# Altium schematic symbol library Connectors.SchLib: 95 symbols (part 1 of 2)
Pins are listed as number, name and electrical type; pins without a type are passive.

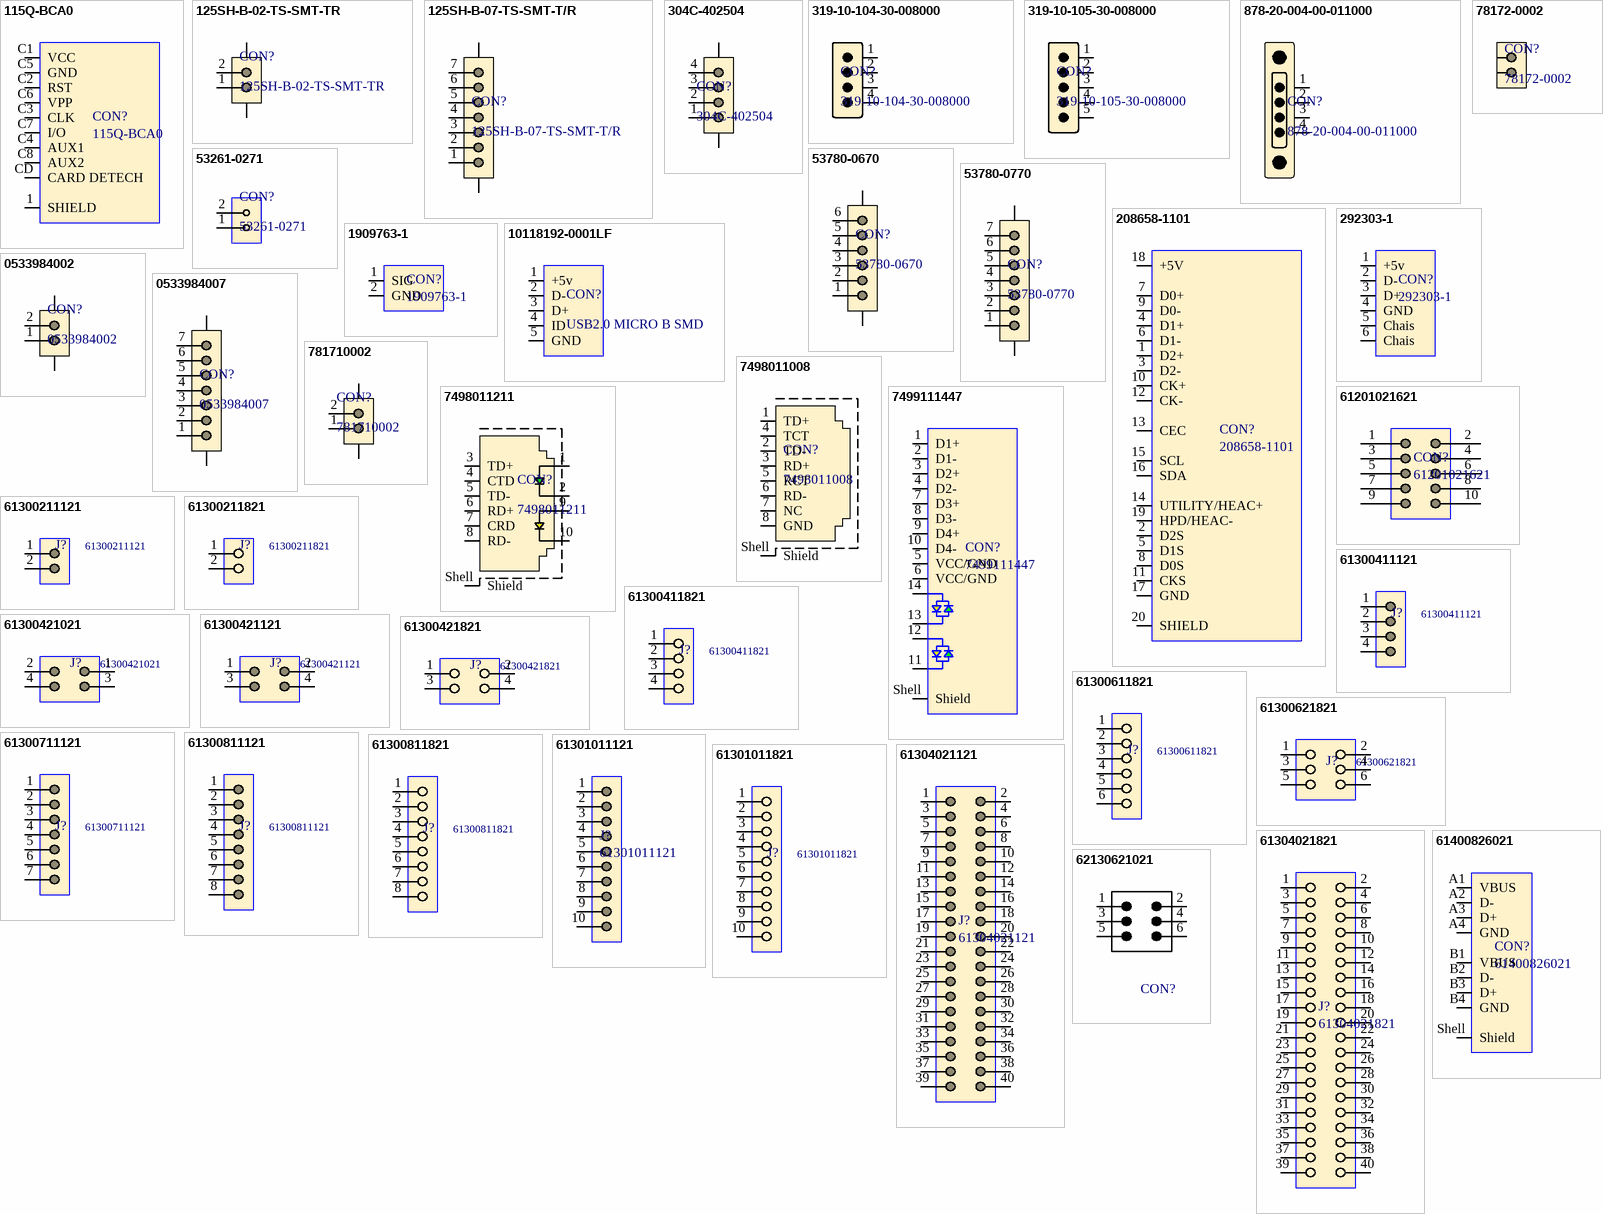
[diagram p0: symbols 115Q-BCA0 to 62130621021]

## 115Q-BCA0
designator CON?
Mini SIM Card, 8 Contacts,; Manufacturer: Attend; Contact Metarial: 5u" GOLD PLATED, 50u" NICKEL UNDER PLATED; Number of Contacts: 8; Purpose Of Usage: BASIC; Supplier 1: Özdisan; Supplier Part Number 1: 115Q-BCA0; Manufacturer Part Number: 115Q-BCA0; RoHS: Yes; Mount: SMD; Contact Plating: Gold; Min Operating Temperature: -40°C; Max Operating Temperature: 85°C; Sub-Category: SIM CARD; Category: CONNECTORS; Stock ID: ??
footprint 115Q-BCA0
pins: 1 SHIELD, C1 VCC, C2 RST, C3 CLK, C4 AUX1, C5 GND, C6 VPP, C7 I/O, C8 AUX2, CD CARD DETECH

## 125SH-B-02-TS-SMT-TR
designator CON?
Connector, header, SMT 2 position, 1.25MM pitch, wire to board header | Adam Tech 125SH-B-02-TS-SMT-T/R; Gender: Receptacle; Number of Contacts: 2; Purpose Of Usage: BASIC; Manufacturer: Adam Tech; Manufacturer Part Number: 125SH-B-02-TS-SMT-TR; Category: CONNECTORS; Local Supplier: FUTURE; Max Operating Temperature: 85°C; Min Operating Temperature: -40°C; Mount: SMD; Orientation: Straight; Pitch: 1.25mm; Price 10K: 0.09; RoHS: Yes; Stock ID: ??; Sub-Category: BOARD TO WIRE; Supplier 1: Digi-Key; Supplier Part Number 1: 2057-125SH-B-02-TS-SMT-T/RCT-ND
footprint 0533984002
pins: 1, 2, 8, 9

## 125SH-B-07-TS-SMT-T/R
designator CON?
Connector, header, SMT 7 position, 1.25MM pitch, wire to board header; Manufacturer: Adam Equipment; Gender: Receptacle; Number of Contacts: 7; Purpose Of Usage: BASIC; Category: CONNECTORS; Local Supplier: FUTURE; Manufacturer Part Number: 125SH-B-07-TS-SMT-T/R; Max Operating Temperature: 85°C; Min Operating Temperature: -40°C; Mount: SMD; Orientation: Straight; Pitch: 1.25mm; Price 10K: 0.156; RoHS: Yes; Stock ID: ??; Sub-Category: BOARD TO WIRE; Supplier 1: Digi-Key; Supplier Part Number 1: 2057-125SH-B-07-TS-SMT-T/RTR-ND
footprint 0533984007
pins: 1, 2, 3, 4, 5, 6, 7, 8, 9

## 304C-402504
designator CON?
Battery Connector, R/A, SMT, Pitch 2.5, H=4.0, 04 Pin, 5u"; Manufacturer: ATTEND; Manufacturer Part Number: 0781710002; Purpose Of Usage: BASIC; RoHS: Yes; Category: CONNECTORS; Sub-Category: SPRING BATTERY; Stock ID: ??
footprint 304C-402504
pins: 1, 2, 3, 4, 5, 6

## 319-10-104-30-008000
designator CON?
Conn Spring Loaded Connector HDR 4 POS 2.54mm Solder ST Top Entry SMD Bulk; Manufacturer: Mill-Max; Number of Contacts: 4; Purpose Of Usage: BASIC; Supplier 1: Digi-Key; Manufacturer Part Number: 319-10-104-30-008000; RoHS: Yes; Category: CONNECTORS; Supplier Part Number 1: ED10772-ND; Pitch: 2.54mm; Sub-Category: POGO PIN; Stock ID: ??
footprint 319-10-104-30-008000 (Pogo Target)
pins: 1, 2, 3, 4

## 319-10-105-30-008000
designator CON?
Pin & Socket Connectors Low Profile SLC Target Connector; Manufacturer: Mill-Max; Number of Contacts: 5; Current Rating: 2A; Purpose Of Usage: BASIC; Supplier 1: Digi-Key; Manufacturer Part Number: 319-10-105-30-008000; RoHS: Yes; Category: CONNECTORS; Contact Plating: Gold; Supplier Part Number 1: ED10773-ND; Local Supplier: FUTURE; Stock ID: ??; Sub-Category: POGO PIN
footprint 319-10-105-30-008000 (Pogo Target)
pins: 1, 2, 3, 4, 5

## 878-20-004-00-011000
designator CON?
Headers & Wire Housings Magnetic Spring-Loaded Target Connector with Concave Face 4 Pins; Manufacturer: Mill-Max; Current Rating: 2A; Number of Contacts: 4; Pitch: 4mm; Purpose Of Usage: BASIC; Supplier 1: DigiKey; Manufacturer Part Number: 878-20-004-00-011000; Supplier Part Number 1: 54-878-20-004-00-011000-ND; Category: CONNECTORS; Mount: CABLE; Orientation: Straight; RoHS: Yes; Sub-Category: POGO PIN; Stock ID: ??
footprint 878-20-004-00-011000
pins: 1, 2, 3, 4

## 53261-0271
designator CON?
Header Surface Mount, Right Angle 2 position; Manufacturer: Molex; Contact Metarial: Bronze,Tin; Gender: Male; Current Rating: 1A; Number of Contacts: 2; Pitch: 1.25mm; Purpose Of Usage: BASIC; Supplier 1: Digi-Key; Manufacturer Part Number: 53261-0271; RoHS: Yes; Mount: SMD; Contact Plating: Tin; Color: Natural; Min Operating Temperature: -40°C; Max Operating Temperature: 85°C; Sub-Category: PIN HEADER; Orientation: Right Angle; Category: CONNECTORS; Supplier Part Number 1: WM7620CT-ND; Stock ID: ??
footprint MOLEX_53261-0271
pins: 1, 2

## 53780-0670
designator CON?
1.25mm Pitch PanelMate Header, Surface Mount, Right-Angle, 1.90mm Height, 6 Circuits; Manufacturer: Molex; Number of Contacts: 6; Gender: Male; Current Rating: 1A; Purpose Of Usage: BASIC; Supplier 1: Digi-Key; Manufacturer Part Number: 53780-0670; RoHS: Yes; Category: CONNECTORS; Color: Natural; Contact Plating: Gold; Min Operating Temperature: -40°C; Max Operating Temperature: 85°C; Orientation: Right Angle; Pitch: 1.25mm; Lead Free: Lead Free; Supplier Part Number 1: WM7603TR-ND; Mount: SMD; Sub-Category: BOARD TO WIRE; Stock ID: ??
footprint 53780-0670
pins: 1, 2, 3, 4, 5, 6, 7, 8

## 53780-0770
designator CON?
1.25mm Pitch PanelMate Header, Surface Mount, Right-Angle, 1.90mm Height, 7 Circuits; Manufacturer: Molex; Manufacturer Part Number: 0537800770; Number of Contacts: 7; Current Rating: 1A; Gender: Male; Purpose Of Usage: BASIC; Supplier 1: Digi-Key; RoHS: Yes; Category: CONNECTORS; Contact Plating: Gold; Color: Natural; Min Operating Temperature: -40°C; Max Operating Temperature: 85°C; Orientation: Right Angle; Length: 13.9mm; Pitch: 1.25mm; Supplier Part Number 1: WM7604TR-ND; Lead Free: Lead Free; Mount: SMD; Sub-Category: BOARD TO WIRE; Stock ID: ??
footprint 53780-0770
pins: 1, 2, 3, 4, 5, 6, 7, 8, 9

## 78172-0002
designator CON?
1.20mm Pitch Pico-EZmate Receptacle Crimp Housing, Single Row, Friction Lock, 2 Circuits, Black; Manufacturer: Molex; Current Rating: 1.5A; Number of Contacts: 2; Pitch: 1.2mm; Purpose Of Usage: BASIC; Supplier 1: Digi-Key; Manufacturer Part Number: 78172-0002; RoHS: Yes; Category: CONNECTORS; Contact Plating: Gold; Min Operating Temperature: -25°C; Max Operating Temperature: 85°C; Gender: Receptacle; Orientation: Straight; Supplier Part Number 1: WM4348-ND; Sub-Category: CRIMP CONNECTOR; Stock ID: ??; Mount: SMD
footprint 78172-0002

## 208658-1101
designator CON?
HDMI; 0.5mm; v2.1; RT Angle; w/o Mylar; w/o Flange; 19 Circuits; Manufacturer: Molex; Purpose Of Usage: BASIC; Supplier 1: Digi-Key; Supplier Part Number 1: 900-2086581101CT-ND; Manufacturer Part Number: 208658-1101; RoHS: No; Category: CONNECTORS; Sub-Category: HDMI; Mount: SMD; Stock ID: ??
footprint 2086581101
pins: 1 D2+, 2 D2S, 3 D2-, 4 D1+, 5 D1S, 6 D1-, 7 D0+, 8 D0S, 9 D0-, 10 CK+, 11 CKS, 12 CK-, 13 CEC, 14 UTILITY/HEAC+, 15 SCL, 16 SDA, 17 GND, 18 +5V, 19 HPD/HEAC-, 20 SHIELD

## 292303-1
designator CON?
4 Position Single Port Socket Right Angle Type A Through Hole USB; Manufacturer: TE Connectivity; Contact Metarial: Copper Alloy,Copper; Current Rating: 1A; Gender: Receptacle; Number of Contacts: 4; Pitch: 2.5mm; Purpose Of Usage: BASIC; Supplier 1: Digi-Key; Manufacturer Part Number: 292303-1; RoHS: Yes; Mount: THT; Contact Plating: Gold; Color: Black; Min Operating Temperature: -67°C; Max Operating Temperature: 185°C; Orientation: Right Angle; Sub-Category: USB; Length: 14.63mm; Supplier Part Number 1: A31726-ND; Category: CONNECTORS; Stock ID: ??
footprint 292303-1
pins: 1 +5v (power), 2 D-, 3 D+, 4 GND, 5 Chais, 6 Chais

## 1909763-1
designator CON?
CONN UMCC JACK STR 50OHM SMD; Manufacturer: TE Connectivity; Gender: Female; Purpose Of Usage: BASIC; Supplier 1: Digi-Key; Supplier Part Number 1: A118077CT-ND; Manufacturer Part Number: 1909763-1; RoHS: Yes; Mount: Panel; Contact Plating: Gold; Min Operating Temperature: -40°C; Max Operating Temperature: 194°C; Orientation: Straight; Length: 3mm; Category: CONNECTORS; Sub-Category: RF / Coaxial Connectors; Stock ID: ??
footprint TE_1909763-1
pins: 1 SIG, 2 GND

## 10118192-0001LF
designator CON?, comment USB2.0 MICRO B SMD
CONN RCPT USB2.0 MICRO B SMD R/A; Manufacturer: Amphenol; Manufacturer Part Number: 10118192-0001LF; Contact Metarial: Copper Alloy; Gender: Receptacle; Current Rating: 1.8A; Number of Contacts: 5; Pitch: 0.65mm; Purpose Of Usage: BASIC; Supplier 1: Digi-Key; Supplier Part Number 1: 609-4613-1-ND; RoHS: Yes; Mount: SMD; Contact Plating: Gold; Color: Black; Min Operating Temperature: -55°C; Max Operating Temperature: 85°C; Sub-Category: USB; Orientation: Right Angle; Length: 7.86mm; Category: CONNECTORS; Stock ID: ??
footprint USB CON B FEMALE
pins: 1 +5v, 2 D-, 3 D+, 4 ID, 5 GND

## 0533984002
designator CON?
Cross Referenced to MOLEX - Part MOL53398-4002; Gender: Receptacle; Number of Contacts: 2; Pitch: 1.25mm; Purpose Of Usage: BASIC; Supplier 1: Digi-Key; Manufacturer: Molex; Manufacturer Part Number: 0533984002; RoHS: Yes; Category: CONNECTORS; Supplier Part Number 1: 900-0533984002TR-ND; Max Operating Temperature: 85°C; Min Operating Temperature: -55°C; Mount: SMD; Orientation: Straight; Stock ID: ??; Sub-Category: BOARD TO WIRE
footprint 0533984002
pins: 1, 2, 8, 9

## 0533984007
designator CON?
Connector, header, SMT 7 position, 1.25MM pitch, wire to board header | Adam Tech 125SH-B-07-TS-SMT-T/R; Manufacturer: Molex; Gender: Receptacle; Number of Contacts: 7; Purpose Of Usage: BASIC; Supplier 1: Digi-Key; Manufacturer Part Number: 0533984007; RoHS: Yes; Category: CONNECTORS; Supplier Part Number 1: 900-0533984007TR-ND; Mount: SMD; Orientation: Straight; Pitch: 1.25mm; Stock ID: ??; Sub-Category: BOARD TO WIRE; Max Operating Temperature: 85°C; Min Operating Temperature: -55°C
footprint 0533984007
pins: 1, 2, 3, 4, 5, 6, 7, 8, 9

## 781710002
designator CON?
Pico-EZmate Wire-to-Board Header Vertical Housing Height 1.55mm with Side Friction Locks 2 Circuits; Manufacturer: Molex; Manufacturer Part Number: 0781710002; Purpose Of Usage: BASIC; Gender: Receptacle; Number of Contacts: 7; Pitch: 1.25mm; Supplier 1: Digi-Key; RoHS: Yes; Category: CONNECTORS; Supplier Part Number 1: WM4459CT-ND; Sub-Category: BOARD TO WIRE; Stock ID: ??; Mount: SMD; Orientation: Right Angle; Max Operating Temperature: 85°C; Min Operating Temperature: -55°C
footprint 781710002
pins: 1, 2, 3, 4

## 7498011008
designator CON?
Surface Mount Lan Ethernet Transformer; 13.6 x 16.26 x 21.95mm; -40; +85 °C; Manufacturer: Wurth Electronics; Gender: Female; Number of Contacts: 8; Pitch: 2.54mm; Purpose Of Usage: BASIC; Supplier 1: Digi-Key; Manufacturer Part Number: 7498011008; RoHS: Yes; Category: CONNECTORS; Contact Plating: Gold; Min Operating Temperature: -40°C; Max Operating Temperature: 85°C; Supplier Part Number 1: 732-4954-ND; Local Supplier: WURTH; Mount: SMD; Orientation: Right Angle; Stock ID: ??; Sub-Category: MODULAR
footprint 7498011008 (LAN Transformer, body 21.95x16.26mm)
pins: 1 TD+, 2 TD-, 3 RD+, 4 TCT, 5 RCT, 6 RD-, 7 NC, 8 GND, Shell Shield

## 7498011211
designator CON?
Conn RJ-45 RCP 9 POS 2.54mm Solder RA SMD 10 Terminal 1 Port; Manufacturer: Wurth Electronics; Gender: Female; Number of Contacts: 8; Purpose Of Usage: BASIC; Supplier 1: Digi-Key; Manufacturer Part Number: 7498011211; RoHS: Yes; Category: CONNECTORS; Contact Plating: Tin,Gold; Color: Green,Yellow; Min Operating Temperature: 0°C; Max Operating Temperature: 70°C; Pitch: 2.54mm; Supplier Part Number 1: 732-4495-5-ND; Local Supplier: WURTH; Mount: SMD; Stock ID: ??; Sub-Category: MODULAR
footprint 7498011211 (LAN Transformer, body 21.65x15.88mm)
pins: 1, 2, 3 TD+, 4 CTD, 5 TD-, 6 RD+, 7 CRD, 8 RD-, 9, 10, Shell Shield

## 7499111447
designator CON?
MODULAR JACK, RJ45, 1000 BASE, 1PORT; Manufacturer: Wurth Electronics; Contact Metarial: Ferrite,Gold; Gender: Female; Number of Contacts: 8; Pitch: 2.54mm; Purpose Of Usage: BASIC; Supplier 1: Digi-Key; Supplier Part Number 1: 732-4058-ND; Manufacturer Part Number: 7499111447; RoHS: Yes; Mount: THT; Contact Plating: Gold; Color: Green,Yellow,Silver; Min Operating Temperature: -40°C; Max Operating Temperature: 85°C; Sub-Category: MODULAR; Orientation: Right Angle; Length: 16mm; Category: CONNECTORS; Stock ID: ??
footprint 7499111447 (LAN Transformer, body 21.3x16mm)
pins: 1 D1+, 2 D1-, 3 D2+, 4 D2-, 5 VCC/GND, 6 VCC/GND, 7 D3+, 8 D3-, 9 D4+, 10 D4-, 11, 12, 13, 14, Shell Shield

## 61201021621
designator CON?
Pin Header, 2.54 mm, 2 Rows, 10 Contacts, Through Hole Straight; Manufacturer: Wurth Electronics; Contact Metarial: Copper Alloy,Copper; Current Rating: 3A; Number of Contacts: 10; Gender: Male; Pitch: 2.54mm; Purpose Of Usage: BASIC; Supplier 1: Digi-Key; Supplier Part Number 1: 732-2094-ND; Manufacturer Part Number: 61201021621; RoHS: Yes; Mount: THT; Color: Black; Contact Plating: Gold; Min Operating Temperature: -40°C; Max Operating Temperature: 125°C; Orientation: Straight; Sub-Category: PIN HEADER; Length: 9.1mm; Category: CONNECTORS; Stock ID: ??
footprint 61201021621 (10 pins, straight, gold plating)
pins: 1, 2, 3, 4, 5, 6, 7, 8, 9, 10

## 61300211121
designator J?
Pin Header, pitch 2.54mm, Single Row, Vertical, 2pin; Manufacturer: Wurth Electronics; Gender: Male; Current Rating: 3A; Number of Contacts: 2; Purpose Of Usage: BASIC; Pitch: 2.54mm; Orientation: Vertical; Supplier 1: Digi-Key; Manufacturer Part Number: 61300211121; RoHS: Yes; Mount: THT; Contact Plating: Gold; Color: Black; Min Operating Temperature: -40°C; Max Operating Temperature: 125°C; Category: CONNECTORS; Supplier Part Number 1: 732-5315-ND; Sub-Category: PIN HEADER; Stock ID: ??
footprint 61300211121 (Pin Header, pitch 2.54 mm, THT, Vertical, single row, 2p)
pins: 1, 2

## 61300211821
designator J?
Socket Header, THT, pitch 2.54mm, Single Row, Vertical, 2pin; Manufacturer: Wurth Electronics; Gender: Female; Purpose Of Usage: BASIC; Pitch: 2.54mm; Orientation: Vertical; Category: CONNECTORS; Sub-Category: SOCKET HEADER; Manufacturer Part Number: 61300211821; Stock ID: ??
footprint 61300211821 (Socket Header, Pitch 2.54 mm, THT, Vertical, single row, 2p)
pins: 1, 2

## 61300411121
designator J?
Pin Header, THT, pitch 2.54mm, Single Row, Vertical, 4pin; Manufacturer: Wurth Electronics; Gender: Male; Number of Contacts: 4; Purpose Of Usage: BASIC; Pitch: 2.54mm; Orientation: Vertical; Supplier 1: Mouser; Manufacturer Part Number: 61300411121; RoHS: Yes; Mount: THT; Contact Plating: Gold; Color: Black; Category: CONNECTORS; Supplier Part Number 1: 710-61300411121; Sub-Category: PIN HEADER; Stock ID: ??
footprint 61300411121 (Pin Header, pitch 2.54 mm, THT, Vertical, single row, 4p)
pins: 1, 2, 3, 4

## 61300411821
designator J?
Socket Header, THT, pitch 2.54mm, Single Row, Vertical, 4pin; Manufacturer: Wurth Electronics; Gender: Female; Purpose Of Usage: BASIC; Pitch: 2.54mm; Orientation: Vertical; Supplier 1: Farnell; Manufacturer Part Number: 61300411821; RoHS: No; Category: CONNECTORS; Sub-Category: SOCKET HEADER; Supplier Part Number 1: 2827888; Stock ID: ??
footprint 61300411821 (Socket Header, Pitch 2.54 mm, THT, Vertical, single row, 4p)
pins: 1, 2, 3, 4

## 61300421021
designator J?
Pin Header, THT, pitch 2.54mm, Dual Row, Angled, 4p; Manufacturer: Wurth Electronics; Number of Contacts: 4; Gender: Male; Pitch: 0.1inch; Purpose Of Usage: BASIC; Supplier 1: Digi-Key; Manufacturer Part Number: 61300421021; RoHS: Yes; Mount: THT; Contact Plating: Gold; Color: Black; Category: CONNECTORS; Supplier Part Number 1: 732-5351-ND; Sub-Category: PIN HEADER; Stock ID: ??
footprint 61300421021 (Pin Header, pitch 2.54 mm, THT, Angled, dual row, 4p)
pins: 1, 2, 3, 4

## 61300421121
designator J?
Pin Header, THT, pitch 2.54mm, Dual Row, Vertical, 4p; Manufacturer: Wurth Electronics; Number of Contacts: 4; Purpose Of Usage: BASIC; Manufacturer Part Number: 61300421121; Pitch: 2.54mm; Gender: Pin Header; Orientation: Vertical; Supplier 1: Digi-Key; RoHS: Yes; Mount: THT; Contact Plating: Gold; Color: Black; Category: CONNECTORS; Supplier Part Number 1: 732-5294-ND; Sub-Category: PIN HEADER; Stock ID: ??
footprint 61300421121 (Pin Header, pitch 2.54 mm, THT, Vertical, dual row, 4p)
footprint 61300421121 - Horizantal (Pin Header, pitch 2.54 mm, THT, Vertical, dual row, 4p)
pins: 1, 2, 3, 4

## 61300421821
designator J?
Socket Header, THT, pitch 2.54mm, Dual Row, Vertical, 4p; Manufacturer: Wurth Electronics; Purpose Of Usage: BASIC; Manufacturer Part Number: 61300421821; Pitch: 2.54mm; Gender: Socket Header; Orientation: Vertical; Category: CONNECTORS; Sub-Category: SOCKET HEADER; Stock ID: ??
footprint 61300421821 (Socket Header, Pitch 2.54 mm, THT, Vertical, dual row, 4p)
pins: 1, 2, 3, 4

## 61300611821
designator J?
Socket Header, THT, pitch 2.54mm, Single Row, Vertical, 6pin; Manufacturer: Wurth Electronics; Gender: Female; Purpose Of Usage: BASIC; Pitch: 2.54mm; Orientation: Vertical; Category: CONNECTORS; Sub-Category: SOCKET HEADER; Manufacturer Part Number: 61300611821; Stock ID: ??
footprint 61300611821
pins: 1, 2, 3, 4, 5, 6

## 61300621821
designator J?
Socket Header, THT, pitch 2.54mm, Dual Row, Vertical, 6pin; Manufacturer: Wurth Electronics; Gender: Female; Purpose Of Usage: BASIC; Manufacturer Part Number: 61300621821; Pitch: 2.54mm; Orientation: Vertical; Category: CONNECTORS; Sub-Category: SOCKET HEADER; Supplier 1: Digi-Key; Supplier Part Number 1: 732-61300621821-ND; Stock ID: ??
footprint 61300621821 (Socket Header, Pitch 2.54 mm, THT, Vertical, dual row, 6p)
pins: 1, 2, 3, 4, 5, 6

## 61300711121
designator J?
Pin Header, THT, pitch 2.54mm, Single Row, Vertical, 7pin; Manufacturer: Wurth Electronics; Manufacturer Part Number: 61304021821; Gender: Male; Purpose Of Usage: BASIC; Pitch: 2.54mm; Orientation: Vertical; Supplier 1: Mouser; RoHS: No; Supplier Part Number 1: 710-61304021821; Category: CONNECTORS; Sub-Category: PIN HEADER; Stock ID: ??
footprint 61300711121 (Pin Header, pitch 2.54 mm, THT, Vertical, single row, 7p)
pins: 1, 2, 3, 4, 5, 6, 7

## 61300811121
designator J?
Pin Header, THT, pitch 2.54mm, Single Row, Vertical, 8pin; Manufacturer: Wurth Electronics; Gender: Male; Number of Contacts: 8; Purpose Of Usage: BASIC; Pitch: 2.54mm; Orientation: Vertical; Supplier 1: Digi-Key; Manufacturer Part Number: 61300811121; RoHS: Yes; Mount: THT; Contact Plating: Gold; Color: Black; Category: CONNECTORS; Supplier Part Number 1: 732-5321-ND; Sub-Category: PIN HEADER; Stock ID: ??
footprint 61300811121 (Pin Header, pitch 2.54 mm, THT, Vertical, single row, 8p)
pins: 1, 2, 3, 4, 5, 6, 7, 8

## 61300811821
designator J?
Socket Header, THT, pitch 2.54mm, Single Row, Vertical, 8pin; Manufacturer: Wurth Electronics; Gender: Female; Purpose Of Usage: BASIC; Pitch: 2.54mm; Orientation: Vertical; Category: CONNECTORS; Sub-Category: SOCKET HEADER; Manufacturer Part Number: 61300811821; Stock ID: ??
footprint 61300811821
pins: 1, 2, 3, 4, 5, 6, 7, 8

## 61301011121
designator J?
Pin Header, Board-to-Board, 2.54 mm, 1 Rows, 10 Contacts, Through Hole, WR-PHD Series; Manufacturer: Wurth Electronics; Current Rating: 3A; Number of Contacts: 10; Gender: Male; Pitch: 2.54mm; Purpose Of Usage: BASIC; Supplier 1: Digi-Key; Supplier Part Number 1: 732-2670-ND; Manufacturer Part Number: 61301011121; RoHS: Yes; Mount: THT; Contact Plating: Gold; Color: Black; Min Operating Temperature: -40°C; Max Operating Temperature: 125°C; Orientation: Straight; Length: 2.54mm; Category: CONNECTORS; Sub-Category: PIN HEADER; Stock ID: ??
footprint 61301011121 (Pin Header, pitch 2.54 mm, THT, Vertical, single row, 10p)
pins: 1, 2, 3, 4, 5, 6, 7, 8, 9, 10

## 61301011821
designator J?
Socket Header, THT, pitch 2.54mm, Single Row, Vertical, 10pin; Manufacturer: Wurth Electronics; Gender: Female; Purpose Of Usage: BASIC; Pitch: 2.54mm; Orientation: Vertical; Category: CONNECTORS; Sub-Category: SOCKET HEADER; Manufacturer Part Number: 61301011821; Stock ID: ??
footprint 61301011821 (Socket Header, Pitch 2.54 mm, THT, Vertical, single row, 10p)
pins: 1, 2, 3, 4, 5, 6, 7, 8, 9, 10

## 61304021121
designator J?
Board-To-Board Connector, Vertical, 2.54 mm, 40 Contacts, Header, WR-PHD Series, Through Hole; Manufacturer: Wurth Electronics; Number of Contacts: 40; Gender: Male; Pitch: 0.1inch; Purpose Of Usage: BASIC; Supplier 1: Digi-Key; Supplier Part Number 1: 732-5310-ND; Manufacturer Part Number: 61304021121; RoHS: Yes; Mount: THT; Contact Plating: Gold; Color: Black; Category: CONNECTORS; Sub-Category: BOARD TO BOARD; Stock ID: ??
footprint 61304021121 (Pin Header, pitch 2.54 mm, THT, Vertical, dual row, 40p)
pins: 1, 2, 3, 4, 5, 6, 7, 8, 9, 10, 11, 12, 13, 14, 15, 16, 17, 18, 19, 20, 21, 22, 23, 24, 25, 26, 27, 28, 29, 30, 31, 32, 33, 34, 35, 36, 37, 38, 39, 40

## 61304021821
designator J?
Socket Header, Connector, RCPT, 40POS, 2ROW, 2.54MM; Manufacturer: Wurth Electronics; Gender: Female; Purpose Of Usage: BASIC; Supplier 1: Mouser; Manufacturer Part Number: 61304021821; RoHS: No; Supplier Part Number 1: 710-61304021821; Category: CONNECTORS; Supplier 2: Farnell; Sub-Category: SOCKET HEADER; Stock ID: ??
footprint 61304021821 (Socket Header, Pitch 2.54 mm, THT, Vertical, dual row, 40p)
pins: 1, 2, 3, 4, 5, 6, 7, 8, 9, 10, 11, 12, 13, 14, 15, 16, 17, 18, 19, 20, 21, 22, 23, 24, 25, 26, 27, 28, 29, 30, 31, 32, 33, 34, 35, 36, 37, 38, 39, 40

## 61400826021
designator CON?
USB2.0 TYPEA STACK R/A; Manufacturer: Wurth Electronics; Contact Metarial: Copper Alloy; Gender: Female; Number of Contacts: 8; Current Rating: 1A; Purpose Of Usage: BASIC; Supplier 1: Digi-Key; Supplier Part Number 1: 732-2107-ND; Manufacturer Part Number: 61400826021; RoHS: Yes; Mount: THT; Contact Plating: Gold; Color: White; Min Operating Temperature: -40°C; Max Operating Temperature: 105°C; Sub-Category: USB; Orientation: Vertical; Length: 15.34mm; Category: CONNECTORS; Stock ID: ??
footprint 61400826021 (USB 2.0 Type A Horizontal Dual Stacked)
pins: A1 VBUS, A2 D-, A3 D+, A4 GND, B1 VBUS, B2 D-, B3 D+, B4 GND, Shell Shield

## 62130621021
designator CON?  (value not drawn)
Connector, HEADER, 6POS, 2ROW, 1.27mm;; Manufacturer: Wurth Elektronik; Gender: Pin Header; Number of Contacts: 6; Purpose Of Usage: BASIC; Manufacturer Part Number: 62130621021; Category: CONNECTORS; Mount: SMD; Orientation: Vertical; Pitch: 1.27mm; RoHS: Yes; Color: Black; Contact Plating: Gold; Local Supplier: WURTH; Max Operating Temperature: 85°C; Min Operating Temperature: -40°C; Stock ID: ??; Sub-Category: PIN HEADER; Supplier 1: Digi-Key; Supplier Part Number 1: 732-62130621021CT-ND; Price 10K: 0.1
footprint 62130621021 (Pin Header, pitch 1.27 mm, SMD, Vertical, dual row, 6p)
pins: 1, 2, 3, 4, 5, 6

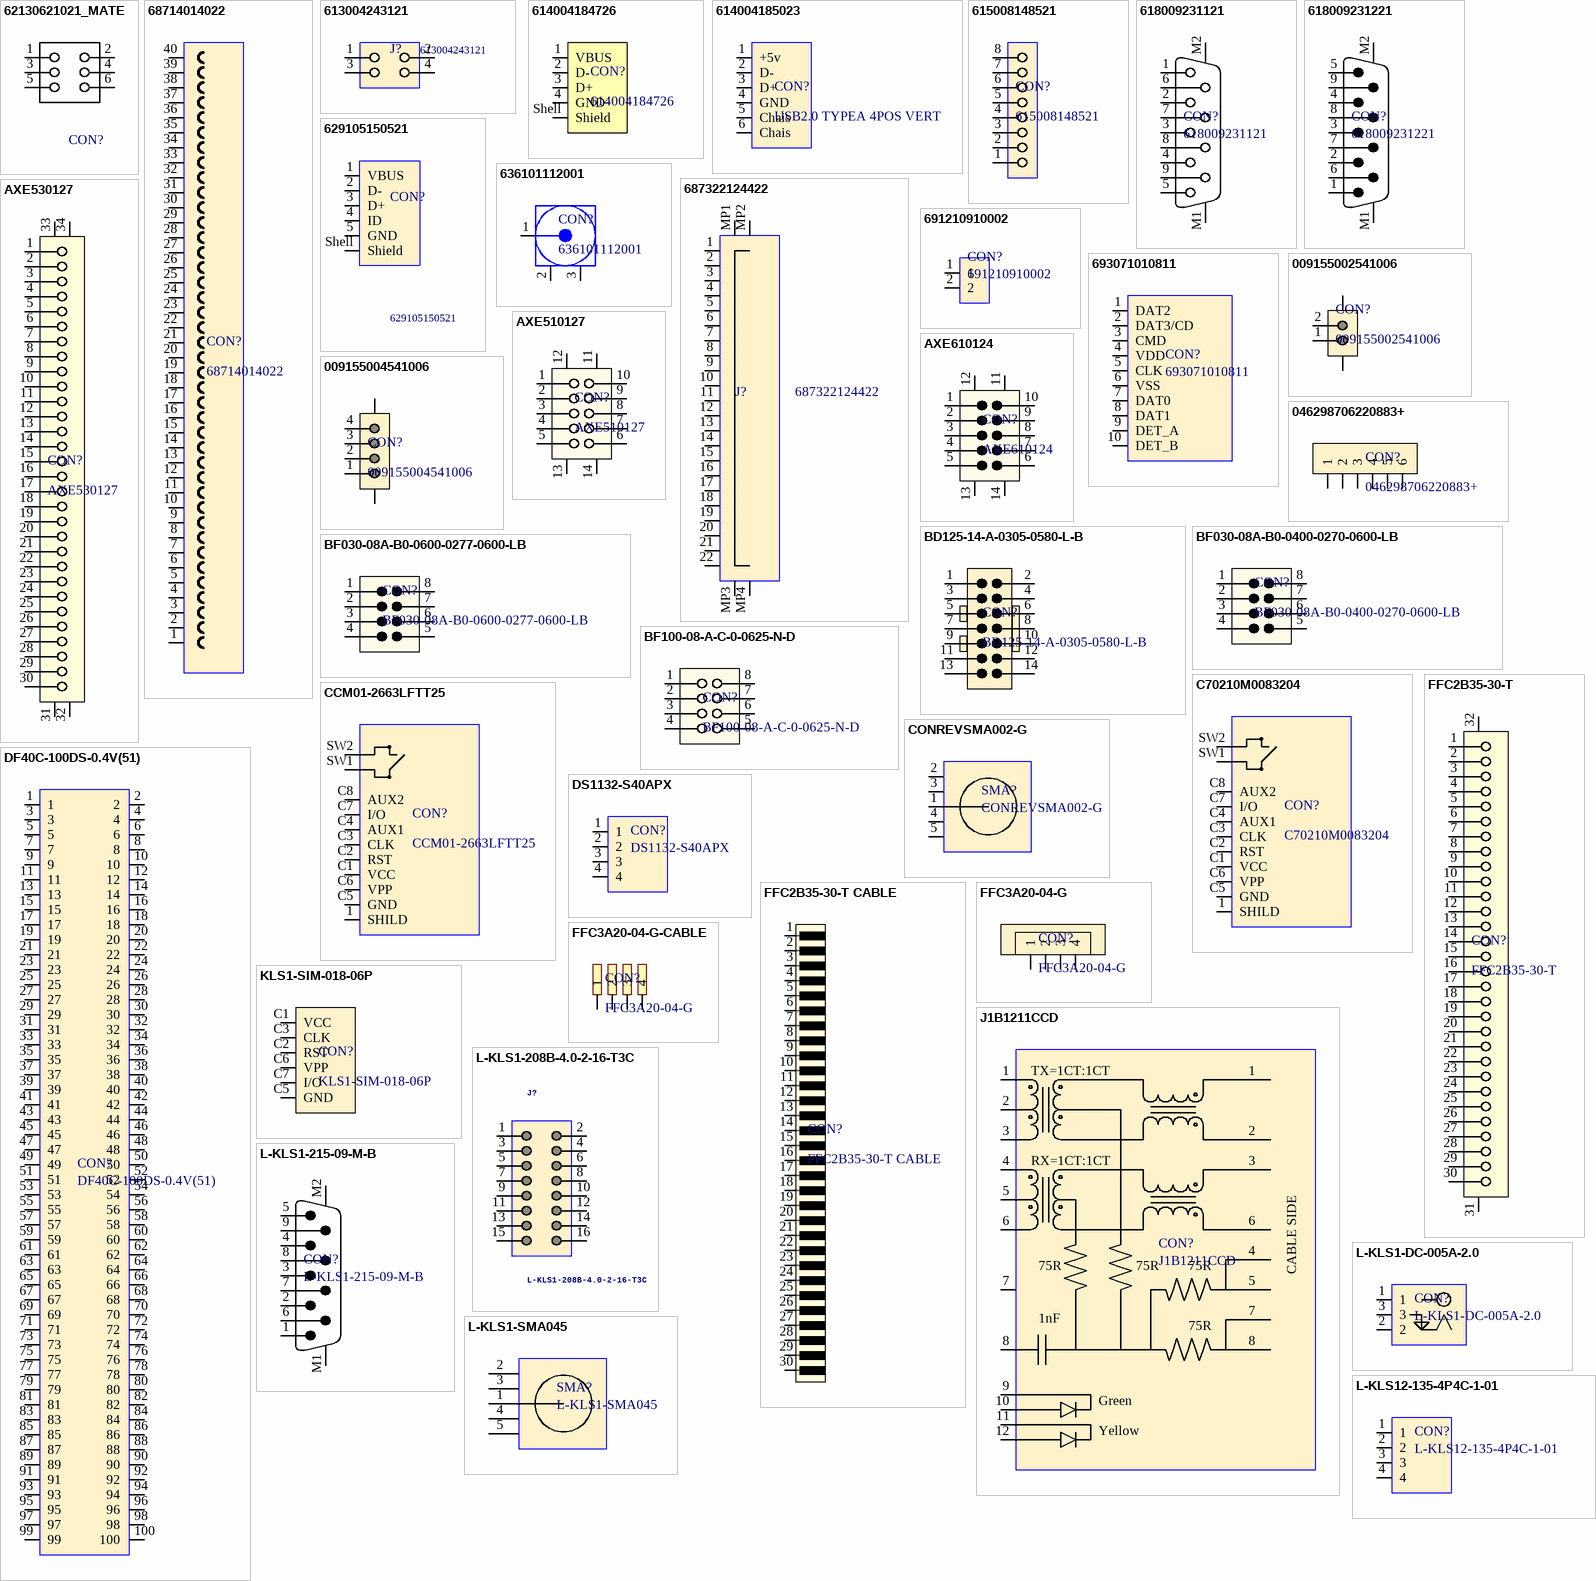
[diagram p1: symbols 62130621021_MATE to L-KLS12-135-4P4C-1-01]

## 62130621021_MATE
designator CON?, comment 62130621021  (value not drawn)
Connector, HEADER, 6POS, 2ROW, 1.27mm;; Manufacturer: Wurth Elektronik; Gender: Pin Header; Number of Contacts: 6; Purpose Of Usage: BASIC; Manufacturer Part Number: 62130621021; Category: CONNECTORS; Mount: SMD; Orientation: Vertical; Pitch: 1.27mm; RoHS: Yes; Color: Black; Contact Plating: Gold; Local Supplier: WURTH; Max Operating Temperature: 85°C; Min Operating Temperature: -40°C; Stock ID: ??; Sub-Category: PIN HEADER; Supplier 1: Digi-Key; Supplier Part Number 1: 732-62130621021CT-ND
footprint 62130621021 - mate (Pin Header, pitch 1.27 mm, SMD, Vertical, dual row, 6p)
pins: 1, 2, 3, 4, 5, 6

## 68714014022
designator CON?
FPC TOP 40POS 0.50MM R/A; Manufacturer: Wurth Electronics; Current Rating: 500mA; Gender: Receptacle; Number of Contacts: 40; Pitch: 0.5mm; Purpose Of Usage: BASIC; Supplier 1: Mouser; Supplier Part Number 1: 710-68714014022; Manufacturer Part Number: 68714014022; RoHS: Yes; Mount: SMD; Contact Plating: Tin; Min Operating Temperature: -25°C; Max Operating Temperature: 85°C; Orientation: Straight; Length: 26.5mm; Category: CONNECTORS; Sub-Category: FPC; Stock ID: ??
footprint 68714014022
pins: 1 40, 2 39, 3 38, 4 37, 5 36, 6 35, 7 34, 8 33, 9 32, 10 31, 11 30, 12 29, 13 28, 14 27, 15 26, 16 25, 17 24, 18 23, 19 22, 20 21, 21 20, 22 19, 23 18, 24 17, 25 16, 26 15, 27 14, 28 13, 29 12, 30 11, 31 10, 32 9, 33 8, 34 7, 35 6, 36 5, 37 4, 38 3, 39 2, 40 1

## 613004243121
designator J?
Socket Header, THT, pitch 2.54mm, Dual Row, Angled, 4p; Manufacturer: Wurth Electronics; Purpose Of Usage: BASIC; Manufacturer Part Number: 613004243121; Pitch: 2.54mm; Gender: Socket Header; Orientation: Angled; Supplier 1: Mouser; RoHS: Yes; Supplier Part Number 1: 710-613004243121; Category: CONNECTORS; Sub-Category: SOCKET HEADER; Stock ID: ??
footprint 613004243121 (Socket Header, Pitch 2.54 mm, THT, Angled, dual row, 4p)
pins: 1, 2, 3, 4

## 614004184726
designator CON?
USB 2.0 Type A Receptacle WR-COM, Up Right, THT, Short Type; Manufacturer: Wurth Electronics; Number of Contacts: 4; Purpose Of Usage: BASIC; Supplier 1: Digi-Key; Manufacturer Part Number: 614004184726; RoHS: Yes; Category: CONNECTORS; Contact Plating: Gold; Min Operating Temperature: -40°C; Max Operating Temperature: 85°C; Gender: Receptacle; Orientation: Right Angle; Supplier Part Number 1: 732-10010-ND; Local Supplier: WURTH; Mount: THT; Stock ID: ??; Sub-Category: USB
footprint 614004184726 (USB 2.0 Type A Up Right THT)
pins: 1 VBUS, 2 D-, 3 D+, 4 GND, Shell Shield

## 614004185023
designator CON?, comment USB2.0 TYPEA 4POS VERT
Manufacturer: Wurth Electronics; Manufacturer Part Number: 614004185023; Contact Metarial: Copper Alloy; Number of Contacts: 4; Gender: Receptacle; Purpose Of Usage: BASIC; Supplier 1: Digi-Key; Supplier Part Number 1: 732-10009-ND; RoHS: Yes; Mount: THT; Contact Plating: Gold; Sub-Category: USB; Orientation: Vertical; Category: CONNECTORS; Stock ID: ??
footprint 614004185023
pins: 1 +5v (power), 2 D-, 3 D+, 4 GND, 5 Chais, 6 Chais

## 615008148521
designator CON?
MODULLAR JACK 8P8C R/A UNSHLD; Manufacturer: Wurth Electronics; Contact Metarial: Copper Alloy; Current Rating: 1.5A; Purpose Of Usage: BASIC; Supplier 1: Digi-Key; Manufacturer Part Number: 615008148521; RoHS: Yes; Mount: THT; Contact Plating: Gold; Min Operating Temperature: -40°C; Max Operating Temperature: 85°C; Sub-Category: MODULAR; Supplier Part Number 1: 732-5936-ND; Category: CONNECTORS; Supplier 2: Ozdisan; Stock ID: ??
footprint 615008148521 (Modular Jack Horizontal Plastic 8P8C Tab Up)
pins: 1, 2, 3, 4, 5, 6, 7, 8

## 618009231121
designator CON?
DB9, Female ,Way Right Angle Through Hole PCB D-sub Connector Socket; 2.77mm; 2.84mm Pitch; Manufacturer: Wurth Electronics; Contact Metarial: Copper Alloy; Current Rating: 3A; Number of Contacts: 9; Purpose Of Usage: BASIC; Supplier 1: Digi-Key; Supplier Part Number 1: 732-618009231121-ND; Manufacturer Part Number: 618009231121; RoHS: Yes; Mount: THT; Contact Plating: Gold; Min Operating Temperature: -40°C; Max Operating Temperature: 85°C; Orientation: Right Angle; Length: 30.8mm; Pitch: 2.84mm; Category: CONNECTORS; Gender: Female; Sub-Category: D-SUB; Stock ID: ??
footprint 618009231121 (9 pins, right angled, 8.08mm, with hex screw)
pins: 1, 2, 3, 4, 5, 6, 7, 8, 9, M1, M2

## 618009231221
designator CON?
DB9,Male Standard, Stecker, Baureihe R/A PCB Mount D Sub, 9 Kontakt(e), DE; Manufacturer: Wurth Electronics; Contact Metarial: Copper Alloy; Current Rating: 3A; Number of Contacts: 9; Pitch: 2.84mm; Purpose Of Usage: BASIC; Supplier 1: Digi-Key; Supplier Part Number 1: 732-618009231221-ND; Manufacturer Part Number: 618009231221; RoHS: Yes; Mount: THT; Contact Plating: Gold; Min Operating Temperature: -40°C; Max Operating Temperature: 85°C; Orientation: Right Angle; Length: 30.8mm; Category: CONNECTORS; Gender: Male; Sub-Category: D-SUB; Stock ID: ??
footprint 618009231221 (9 pins, right angled, 8.08mm, with hex screw)
pins: 1, 2, 3, 4, 5, 6, 7, 8, 9, M1, M2

## 629105150521
designator CON?
Micro USB 2.0 Type B, Receptacle, Horizontal, SMT, with Pegs; Manufacturer: Wurth Electronics; Contact Metarial: Copper Alloy; Number of Contacts: 5; Purpose Of Usage: BASIC; Manufacturer Part Number: 629105150521; Gender: Receptacle; Sub-Category: USB; Supplier 1: Digi-Key; RoHS: Yes; Mount: SMD; Contact Plating: Gold; Orientation: Right Angle; Category: CONNECTORS; Supplier Part Number 1: 732-5960-1-ND; Stock ID: ??
footprint 629105150521 (Micro USB 2.0 SMT Type B Horizontal 5 Contacts High Current)
pins: 1 VBUS, 2 D-, 3 D+, 4 ID, 5 GND, Shell Shield

## 636101112001
designator CON?
WR-UMRF PCB Receptacle SMT with 3 Pads, DC~6GHz, 50Ω; Manufacturer: Wurth Electronics; Purpose Of Usage: BASIC; Supplier 1: Digi-Key; Manufacturer Part Number: 636101112001; RoHS: No; Category: CONNECTORS; Supplier Part Number 1: 732-636101112001CT-ND; Gender: Receptacle; Sub-Category: RF / Coaxial Connectors; Mount: SMD; Local Supplier: WURTH; Price 10K: 0.07; Stock ID: ??
footprint 63610111x001 (RF CONNECTOR VERTICAL 1.25MM)
pins: 1 Signal "Signal Pin", 2 GND, 3 GND

## 687322124422
designator J?
FPC SMT ZIF Vertical, pitch 0.5mm, 22p; Manufacturer: Wurth Electronics; Purpose Of Usage: BASIC; Pitch: 0.5mm; Length: 17.4mm; Category: CONNECTORS; Sub-Category: FPC; Manufacturer Part Number: 687322124422; Mount: SMD; Stock ID: ??
footprint 687322124422
pins: 1, 2, 3, 4, 5, 6, 7, 8, 9, 10, 11, 12, 13, 14, 15, 16, 17, 18, 19, 20, 21, 22, MP1, MP2, MP3, MP4

## 691210910002
designator CON?
2.54 Mm Terminal Block, Horizont; Manufacturer: Wurth Electronics; Purpose Of Usage: BASIC; Supplier 1: Digi-Key; Supplier Part Number 1: 732-691210910002-ND; Manufacturer Part Number: 691210910002; RoHS: No; Category: CONNECTORS; Sub-Category: TERMINAL BLOCK; Stock ID: ??
footprint 691210910002 (2,54mm - modular - green - Horizontal wire entry - Cage clamp - 0,8mm2 wires - 02p)
pins: 1, 2

## 693071010811
designator CON?
Micro SD, 8 Contacts,; Manufacturer: Wurth Electronics; Contact Metarial: Copper Alloy,Copper,Gold; Number of Contacts: 8; Purpose Of Usage: BASIC; Supplier 1: Digi-Key; Supplier Part Number 1: 732-3819-1-ND; Manufacturer Part Number: 693071010811; RoHS: Yes; Mount: SMD; Contact Plating: Gold; Min Operating Temperature: -25°C; Max Operating Temperature: 85°C; Sub-Category: Connector; Length: 14mm; Category: CONNECTORS; Stock ID: ??
footprint 693071010811_WRE
pins: 1 DAT2, 2 DAT3/CD, 3 CMD, 4 VDD, 5 CLK, 6 VSS, 7 DAT0, 8 DAT1, 9 DET_A, 10 DET_B

## 009155002541006
designator CON?
Conn Battery M 2 POS 2.5mm Solder RA SMD 2 Terminal 1 Port; Manufacturer: AVX; Number of Contacts: 2; Gender: Male; Purpose Of Usage: BASIC; Supplier 1: Digi-Key; Manufacturer Part Number: 009155002541006; RoHS: Yes; Category: CONNECTORS; Color: Black; Contact Plating: Gold; Orientation: Right Angle; Length: 12.5mm; Pitch: 2.5mm; Lead Free: Lead Free; Supplier Part Number 1: 478-5450-2-ND; Sub-Category: SPRING BATTERY; Mount: SMD; Stock ID: ??
footprint 009155002541006
pins: 1, 2, 5, 6

## 009155004541006
designator CON?
Conn Battery M 4 POS 2.5mm Solder RA SMD 4 Terminal 1 Port; Manufacturer: AVX; Number of Contacts: 4; Gender: Male; Purpose Of Usage: BASIC; Supplier 1: Digi-Key; Manufacturer Part Number: 009155004541006; RoHS: Yes; Category: CONNECTORS; Color: Black; Contact Plating: Gold; Orientation: Right Angle; Length: 12.5mm; Pitch: 2.5mm; Lead Free: Lead Free; Supplier Part Number 1: 478-5452-2-ND; Mount: SMD; Sub-Category: SPRING BATTERY; Local Supplier: FUTURE; Price 10K: 0.35; Stock ID: ??
footprint 009155004541006
pins: 1, 2, 3, 4, 5, 6

## 046298706220883+
designator CON?
0.5mm Pitch Right angle SMT 6 Position FFC Connector; Manufacturer: Kyocera AVX; Supplier 1: Digi-Key; Manufacturer Part Number: 046298706220883+; RoHS: No; Category: FFC / FPC; Supplier Part Number 1: 478-046298706220883+-ND; Stock ID: ??
footprint KYOCERA_046298706220883+
pins: 1, 2, 3, 4, 5, 6

## AXE510127
designator CON?
10 Position 0.4 mm Pitch Board to Board Surface Mount Socket Connector; Manufacturer: Panasonic; Pitch: 0.016inch; Number of Contacts: 10; Purpose Of Usage: BASIC; Supplier 1: Digi-Key; Manufacturer Part Number: AXE510127; RoHS: Yes; Category: CONNECTORS; Contact Plating: Gold; Supplier Part Number 1: 255-6142-1-ND; Mount: SMD; Sub-Category: BOARD TO BOARD; Stock ID: ??
footprint AXE510127
pins: 1, 2, 3, 4, 5, 6, 7, 8, 9, 10, 11, 12, 13, 14

## AXE530127
designator CON?
Conn Board to Board SKT 30 POS 0.4mm Solder ST SMD Embossed T/R; Manufacturer: Panasonic; Pitch: 0.016inch; Number of Contacts: 30; Purpose Of Usage: BASIC; Supplier 1: Digi-Key; Manufacturer Part Number: AXE530127; RoHS: Yes; Category: CONNECTORS; Contact Plating: Gold; Mount: SMD; Supplier Part Number 1: 255-5287-1-ND; Sub-Category: BOARD TO BOARD; Stock ID: ??
footprint axe530127
pins: 1, 2, 3, 4, 5, 6, 7, 8, 9, 10, 11, 12, 13, 14, 15, 16, 17, 18, 19, 20, 21, 22, 23, 24, 25, 26, 27, 28, 29, 30, 31, 32, 33, 34

## AXE610124
designator CON?
AXE6(A4S) Header (0.4mm pitch, 10-pin) w/o positioning boss; Manufacturer: Panasonic; Number of Contacts: 10; Purpose Of Usage: BASIC; Supplier 1: Digi-Key; Manufacturer Part Number: AXE610124; RoHS: Yes; Category: CONNECTORS; Contact Plating: Gold; Min Operating Temperature: -55°C; Max Operating Temperature: 85°C; Orientation: Straight; Length: 3.8mm; Pitch: 0.4mm; Lead Free: Lead Free; Supplier Part Number 1: 255-3198-2-ND; Mount: SMD; Sub-Category: BOARD TO BOARD; Stock ID: ??
footprint AXE610124
pins: 1, 2, 3, 4, 5, 6, 7, 8, 9, 10, 11, 12, 13, 14

## BD125-14-A-0305-0580-L-B
designator CON?
14 Position IDC connector; Manufacturer: Global Connector Technology; Number of Contacts: 12; Pitch: 1.27; Purpose Of Usage: BASIC; Supplier 1: Future Electronics; Manufacturer Part Number: BD125-14-A-0305-0580-L-B; RoHS: No; Category: CONNECTORS; Mount: SMD; Sub-Category: IDC; Local Supplier: FUTURE; Stock ID: ??
footprint BD125-14-A-0305-0580-L-B
pins: 1, 2, 3, 4, 5, 6, 7, 8, 9, 10, 11, 12, 13, 14

## BF030-08A-B0-0400-0270-0600-LB
designator CON?
BOARD-BOARD CONNECTOR HEADER, 8WAY, 2ROW; BOARD-BOARD CONNECTOR HEADER, 8WAY, 2ROW; Pitch Spacing: 2mm; Manufacturer: Global Connector Technology; Number of Contacts: 8; Gender: Male; Pitch: 2; Purpose Of Usage: BASIC; Manufacturer Part Number: BF030-08A-B0-0400-0270-0600-LB; RoHS: Yes; Category: CONNECTORS; Contact Plating: Gold; Local Supplier: FUTURE; Mount: SMD; Stock ID: ??; Sub-Category: BOARD TO BOARD
footprint BF030-08A-B0-0400-0270-0600-LB
pins: 1, 2, 3, 4, 5, 6, 7, 8

## BF030-08A-B0-0600-0277-0600-LB
designator CON?
8POS, 2MM Pitch Pin Hdr, Dil, Sm; Manufacturer: GCT; Gender: Male; Number of Contacts: 8; Pitch: 2; Purpose Of Usage: BASIC; Supplier 1: Digi-Key; Manufacturer Part Number: BF030-08A-B0-0600-0277-0600-LB; Supplier Part Number 1: 2073-BF030-08A-B0-0600-0277-0600-LBTR-ND; Category: CONNECTORS; Local Supplier: FUTURE; Mount: SMD; Orientation: Vertical; RoHS: Yes; Stock ID: ??; Sub-Category: BOARD TO BOARD
footprint BF030-08A-B0-0600-0277-0600-LB
pins: 1, 2, 3, 4, 5, 6, 7, 8

## BF100-08-A-C-0-0625-N-D
designator CON?
Board-board Connector Socket, 8WAY, 2ROW; Manufacturer: Global Connector Technology; Gender: Receptacle; Number of Contacts: 8; Purpose Of Usage: BASIC; Pitch: 2; Supplier 1: Newark; Manufacturer Part Number: BF100-08-A-C-0-0625-N-D; RoHS: Yes; Category: CONNECTORS; Contact Plating: Gold; Supplier Part Number 1: 67R8198; Mount: SMD; Stock ID: ??; Sub-Category: BOARD TO BOARD
footprint BF100-08-A-C-0-0625-N-D
pins: 1, 2, 3, 4, 5, 6, 7, 8

## C70210M0083204
designator CON?
SMARTCARD; Manufacturer: Amphenol; Purpose Of Usage: BASIC; Supplier 1: Digi-Key; Manufacturer Part Number: C70210M0083204; RoHS: No; Category: CONNECTORS; Supplier Part Number 1: 889-2285-ND; Sub-Category: SMART CARD; Mount: SMD; Stock ID: ??; Local Supplier: Avnet Abacus; Price 10K: 2.2
footprint AMPHENOL_C702_10M008_3204
pins: 1 SHILD, C1 VCC, C2 RST, C3 CLK, C4 AUX1, C5 GND, C6 VPP, C7 I/O, C8 AUX2, SW1, SW2

## CCM01-2663LFTT25
designator CON?
Card Connector Smart Card Surface Mount, Right Angle, 10 (8 + 2) Position; Manufacturer: ITT C&K; Purpose Of Usage: BASIC; Supplier 1: Digi-Key; Manufacturer Part Number: CCM01-2663LFTT25; RoHS: No; Supplier Part Number 1: 108-CCM01-2663LFTT25-ND; Category: CONNECTORS; Sub-Category: SMART CARD; Stock ID: ??
footprint CCM01-2663LFTT25
pins: 1 SHILD, C1 VCC, C2 RST, C3 CLK, C4 AUX1, C5 GND, C6 VPP, C7 I/O, C8 AUX2, SW1, SW2

## CONREVSMA002-G
designator SMA?
18 Ghz 50 Ohm Reverse Polarity SMA Male Pin Right Angle Jack; Manufacturer: Linx; Purpose Of Usage: BASIC; Supplier 1: Digi-Key; Manufacturer Part Number: CONREVSMA002-G; RoHS: Yes; Mount: THT; Contact Plating: Gold; Min Operating Temperature: -65°C; Max Operating Temperature: 165°C; Orientation: Right Angle; Gender: Male; Supplier Part Number 1: CONREVSMA002-G-ND; Category: CONNECTORS; Sub-Category: RF / Coaxial Connectors; Stock ID: ??
footprint CONN_CONREVSMA00
pins: 1, 2, 3, 4, 5

## DF40C-100DS-0.4V(51)
designator CON?
BOARD TO BOARD DF40C-100DS-0.4V(51); Manufacturer: Hirose; Contact Metarial: Bronze; Number of Contacts: 100; Gender: Receptacle; Current Rating: 300mA; Pitch: 0.4mm; Purpose Of Usage: BASIC; Supplier 1: Digi-Key; Manufacturer Part Number: DF40C-100DS-0.4V(51); RoHS: Yes; Mount: SMD; Contact Plating: Gold; Min Operating Temperature: -35°C; Max Operating Temperature: 85°C; Sub-Category: BOARD TO BOARD; Orientation: Straight; Length: 22.6mm; Supplier Part Number 1: H11615CT-ND; Category: CONNECTORS; Stock ID: ??
footprint HRS_DF40C-100DS-0.4V(51)
pins: 1, 2, 3, 4, 5, 6, 7, 8, 9, 10, 11, 12, 13, 14, 15, 16, 17, 18, 19, 20, 21, 22, 23, 24, 25, 26, 27, 28, 29, 30, 31, 32, 33, 34, 35, 36, 37, 38, 39, 40, 41, 42, 43, 44, 45, 46, 47, 48, 49, 50, 51, 52, 53, 54, 55, 56, 57, 58, 59, 60, 61, 62, 63, 64, 65, 66, 67, 68, 69, 70, 71, 72, 73, 74, 75, 76, 77, 78, 79, 80, 81, 82, 83, 84, 85, 86, 87, 88, 89, 90, 91, 92, 93, 94, 95, 96, 97, 98, 99, 100

## DS1132-S40APX
designator CON?
MODULAR JACK 4P4C RJ9; Manufacturer: Connfly; Purpose Of Usage: BASIC; Category: CONNECTORS; Sub-Category: MODULAR; Manufacturer Part Number: DS1132-S40APX; Mount: THT; Stock ID: ??
footprint DS1132-S40APX
pins: 1, 2, 3, 4

## FFC2B35-30-T
designator CON?
Conn Ffc Bottom 30POS 0.5MM R/a; Manufacturer: GCT; Number of Contacts: 30; Purpose Of Usage: BASIC; Supplier 1: Farnell; Manufacturer Part Number: FFC2B35-30-T; Supplier Part Number 1: 3933377; Category: CONNECTORS; Local Supplier: FUTURE; Max Operating Temperature: 85°C; Min Operating Temperature: -40°C; Mount: SMD; Orientation: Right Angle; Pitch: 0.5mm; Price 10K: 0.2; RoHS: Yes; Stock ID: ??; Sub-Category: FPC
footprint GCT_FFC2B35-30-G_REVA2
pins: 1, 2, 3, 4, 5, 6, 7, 8, 9, 10, 11, 12, 13, 14, 15, 16, 17, 18, 19, 20, 21, 22, 23, 24, 25, 26, 27, 28, 29, 30, 31, 32

## FFC2B35-30-T CABLE
designator CON?  (no BOM)
Conn Ffc Bottom 30POS 0.5MM R/a CABLE SIDE; Manufacturer: GCT; Number of Contacts: 30; Purpose Of Usage: BASIC; Supplier 1: Farnell; Manufacturer Part Number: FFC2B35-30-T; Supplier Part Number 1: 3933377; Category: CONNECTORS; Local Supplier: FUTURE; Max Operating Temperature: 85°C; Min Operating Temperature: -40°C; Mount: SMD; Orientation: Right Angle; Pitch: 0.5mm; Price 10K: 0.2; RoHS: Yes; Stock ID: ??; Sub-Category: FPC
footprint GCT_FFC2B35-30-G_REVA2 - CABLE
pins: 1, 2, 3, 4, 5, 6, 7, 8, 9, 10, 11, 12, 13, 14, 15, 16, 17, 18, 19, 20, 21, 22, 23, 24, 25, 26, 27, 28, 29, 30

## FFC3A20-04-G
designator CON?
04W, 1MM Ffc Con, Vert, H5.5MM,; Manufacturer: Global Connector Technology; Number of Contacts: 4; Purpose Of Usage: BASIC; Supplier 1: Farnell; Manufacturer Part Number: FFC3A20-04-G; RoHS: No; Category: CONNECTORS; Supplier Part Number 1: 3974320; Local Supplier: FUTURE; Max Operating Temperature: 85°C; Min Operating Temperature: -40°C; Mount: SMD; Orientation: Vertical; Pitch: 1mm; Stock ID: ??; Sub-Category: FPC
footprint GCT_FFC2A33-04-T-L_REVA
pins: 1, 2, 3, 4

## FFC3A20-04-G-CABLE
designator CON?, comment FFC3A20-04-G  (no BOM)
04W, 1MM Ffc Con, Vert, H5.5MM,; Category: CONNECTORS; Stock ID: ??; Sub-Category: FPC
footprint GCT_FFC2A33-04-T-L_REVA- CABLE - duplicate
pins: 1, 2, 3, 4

## J1B1211CCD
designator CON?
CONN MAGJACK 1PORT 100BASE-T PCB; Manufacturer: WIZnet; Contact Metarial: Brass; Purpose Of Usage: BASIC; Supplier 1: Digi-Key; Supplier Part Number 1: 1278-1052-ND; Manufacturer Part Number: J1B1211CCD; RoHS: No; Mount: THT; Color: Green,Yellow; Contact Plating: Gold; Min Operating Temperature: -40°C; Max Operating Temperature: 85°C; Sub-Category: MODULAR; Category: CONNECTORS; Stock ID: ??
footprint J1B1211CCD_WIZ
pins: 1, 2, 3, 4, 5, 6, 7, 8, 9, 10, 11, 12
text: TX=1CT:1CT; RX=1CT:1CT; 75R; CABLE SIDE; 1nF; Green; Yellow

## KLS1-SIM-018-06P
designator CON?
Conn SIM Card M 6 POS 2.54mm Solder RA SMD 0.5A/Contact Embossed T/R; Manufacturer: KLS Electronic; Purpose Of Usage: BASIC; Supplier 1: Özdisan; Manufacturer Part Number: KLS1-SIM-018-06P; RoHS: Yes; Category: CONNECTORS; Supplier Part Number 1: KLS1-SIM-018; Sub-Category: SIM CARD; Stock ID: ??
footprint KLS1-SIM-018 2.54mm Pitch SIM Card Connector
pins: C1 VCC, C2 RST, C3 CLK, C5 GND, C6 VPP, C7 I/O

## L-KLS1-208B-4.0-2-16-T3C
designator J?
Socket Header 2mm pitch; Manufacturer: KLS Electronic; Gender: Female; Purpose Of Usage: BASIC; Category: CONNECTORS; Sub-Category: SOCKET HEADER; Manufacturer Part Number: L-KLS1-208B-4.0-2-16-T3C; Stock ID: ??
footprint L-KLS1-208B-4.0-2-16-T3C
pins: 1, 2, 3, 4, 5, 6, 7, 8, 9, 10, 11, 12, 13, 14, 15, 16

## L-KLS1-215-09-M-B
designator CON?
DB9,Male Standard, Stecker, Baureihe R/A PCB Mount D Sub, 9 Kontakt(e), DE; Manufacturer: KLS Electronic; Contact Metarial: Copper Alloy; Current Rating: 2A; Number of Contacts: 9; Pitch: 2.84mm; Purpose Of Usage: BASIC; Supplier Part Number 1: L-KLS1-215-09-M-B; Manufacturer Part Number: L-KLS1-215-09-M-B; RoHS: Yes; Mount: THT; Contact Plating: Gold; Min Operating Temperature: -55°C; Max Operating Temperature: 105°C; Orientation: Right Angle; Length: 30.8mm; Category: CONNECTORS; Gender: Male; Supplier 1: Ozdisan; Sub-Category: D-SUB; Stock ID: ??
footprint 618009231221 (9 pins, right angled, 8.08mm, with hex screw)
pins: 1, 2, 3, 4, 5, 6, 7, 8, 9, M1, M2

## L-KLS1-DC-005A-2.0
designator CON?
CONN JACK R/A PCB 5.5X2.5MM; Manufacturer: KLS Electronic; Purpose Of Usage: BASIC; Supplier 1: Ozdisan; Supplier Part Number 1: L-KLS1-DC-005A-2.0; Manufacturer Part Number: L-KLS1-DC-005A-2.0; RoHS: No; Category: CONNECTORS; Sub-Category: JACK; Stock ID: ??
footprint L-KLS1-DC-005A-2.0
pins: 1, 2, 3

## L-KLS1-SMA045
designator SMA?
CONNECTOR SMA 5PIN THT R/A 8x8x14.8MM; Manufacturer: KLS Electronic; Gender: Male; Purpose Of Usage: BASIC; Category: CONNECTORS; Supplier 1: Ozdisan; RoHS: Yes; Mount: THT; Contact Plating: Gold; Min Operating Temperature: -65°C; Max Operating Temperature: 165°C; Orientation: Right Angle; Manufacturer Part Number: L-KLS1-SMA045; Supplier Part Number 1: L-KLS1-SMA045; Sub-Category: RF / Coaxial Connectors; Stock ID: ??
footprint 8x8x14.8 SMA Konnektor
pins: 1, 2, 3, 4, 5

## L-KLS12-135-4P4C-1-01
designator CON?
4P4C RJ9 Low Profile; Manufacturer: KLS Electronic; Purpose Of Usage: BASIC; Category: CONNECTORS; Supplier Part Number 1: L-KLS12-135-4P4C-1-01; Supplier 1: Ozdisan; Manufacturer Part Number: L-KLS12-135-4P4C-1-01; Sub-Category: MODULAR; Mount: THT; Stock ID: ??
footprint L-KLS12-135-4P4C-1-01
pins: 1, 2, 3, 4

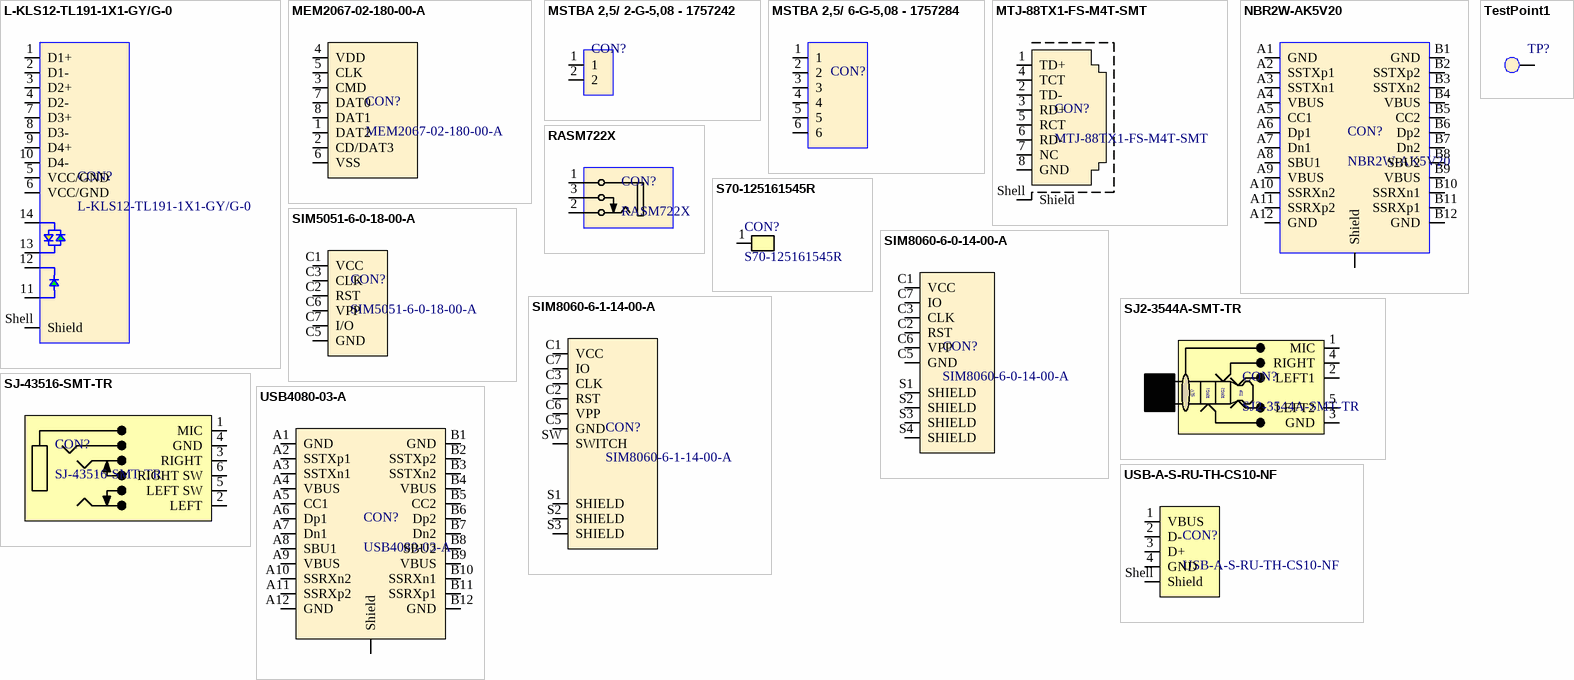
[diagram p2: symbols L-KLS12-TL191-1X1-GY/G-0 to USB-A-S-RU-TH-CS10-NF]

## L-KLS12-TL191-1X1-GY/G-0
designator CON?
MODULAR JACK THT R/A 8P8C (RJ45,Ethernet) GRAY; Manufacturer: KLS Electronic; Purpose Of Usage: BASIC; Category: CONNECTORS; Manufacturer Part Number: L-KLS12-TL191-1X1-GY/G-0; Supplier 1: Özdisan; Supplier Part Number 1: L-KLS12-TL191-1X1-GY/G-0; Sub-Category: MODULAR; Stock ID: ??
footprint L-KLS12-TL191-1X1-GY/G-0 (LAN Transformer, body 21.3x16mm)
pins: 1 D1+, 2 D1-, 3 D2+, 4 D2-, 5 VCC/GND, 6 VCC/GND, 7 D3+, 8 D3-, 9 D4+, 10 D4-, 11, 12, 13, 14, Shell Shield

## MEM2067-02-180-00-A
designator CON?
8 Contact Hinged SMT 1.8 mm Profile Micro SD Card (No Peg No Switch); Manufacturer: Global Connector Technology; Number of Contacts: 8; Purpose Of Usage: BASIC; Supplier 1: Farnell; Manufacturer Part Number: MEM2067-02-180-00-A; RoHS: Yes; Category: CONNECTORS; Contact Plating: Gold; Supplier Part Number 1: 3871971; Mount: SMD; Sub-Category: SD CARD; Local Supplier: FUTURE; Price 10K: 0.42; Stock ID: ??
footprint MEM2067-02-180-00-A_revB (Micro SD Memory Card ConnectorSMT, Hinged, 1.80mm Profile)
pins: 1 DAT2, 2 CD/DAT3, 3 CMD, 4 VDD (power), 5 CLK, 6 VSS (power), 7 DAT0, 8 DAT1

## MSTBA 2,5/ 2-G-5,08 - 1757242
designator CON?, comment MSTBA 2,5/ 2-G-5,08  (value not drawn)
TERM BLOCK HDR 2POS 90DEG 5.08MM; Manufacturer: Phoenix Contact; Manufacturer Part Number: 1757242; Current Rating: 12A; Number of Contacts: 2; Gender: Male; Purpose Of Usage: BASIC; Supplier 1: Digi-Key; Supplier Part Number 1: 277-1106-ND; RoHS: Yes; Mount: THT; Contact Plating: Tin; Color: Grey; Orientation: Right Angle; Length: 12.16mm; Pitch: 5.08mm; Category: CONNECTORS; Sub-Category: TERMINAL BLOCK; Stock ID: ??
footprint TERM BLOCK HDR 2POS 90DEG 5.08MM
pins: 1, 2

## MSTBA 2,5/ 6-G-5,08 - 1757284
designator CON?, comment MSTBA 2,5/ 6-G-5,08  (value not drawn)
TERM BLOCK HDR 6POS 90DEG 5.08MM; Manufacturer: Phoenix Contact; Manufacturer Part Number: 1757284; Gender: Male; Current Rating: 12A; Number of Contacts: 6; Purpose Of Usage: BASIC; Supplier 1: Digi-Key; Supplier Part Number 1: 277-1110-ND; RoHS: Yes; Mount: THT; Contact Plating: Tin; Color: Grey; Orientation: Right Angle; Length: 32.48mm; Pitch: 5.08mm; Category: CONNECTORS; Sub-Category: TERMINAL BLOCK; Stock ID: ??
footprint TERM BLOCK HDR 6POS 90DEG 5.08MM
pins: 1, 2, 3, 4, 5, 6

## MTJ-88TX1-FS-M4T-SMT
designator CON?
Modular Jack, Shielded, Led's, W; Manufacturer: Adam Equipment; Number of Contacts: 8; Purpose Of Usage: BASIC; Supplier 1: Digi-Key; Manufacturer Part Number: MTJ-88TX1-FS-M4T-SMT; RoHS: No; Category: CONNECTORS; Supplier Part Number 1: 2057-MTJ-88TX1-FS-M4T-SMT-ND; Local Supplier: FUTURE; Max Operating Temperature: 85°C; Min Operating Temperature: 0°C; Mount: SMD; Orientation: Right Angle; Price 10K: 0.82; Stock ID: ??; Sub-Category: MODULAR
footprint 7498011008 (LAN Transformer, body 21.95x16.26mm)
pins: 1 TD+, 2 TD-, 3 RD+, 4 TCT, 5 RCT, 6 RD-, 7 NC, 8 GND, Shell Shield

## NBR2W-AK5V20
designator CON?
CONN RCP USB3.1 TYPEC 24P SMD RA; Manufacturer: Advanced-Connectek; Gender: Receptacle; Number of Contacts: 24; Purpose Of Usage: BASIC; Category: CONNECTORS; Manufacturer Part Number: NBR2W-AK5V20; Max Operating Temperature: 85°C; Min Operating Temperature: -55°C; Mount: SMD; Orientation: Right Angle; RoHS: Yes; Sub-Category: USB Type-C; Supplier 1: KAT; Stock ID: ??
footprint NBR2W-AK5V20
pins: A1 GND, A2 SSTXp1, A3 SSTXn1, A4 VBUS, A5 CC1, A6 Dp1, A7 Dn1, A8 SBU1, A9 VBUS, A10 SSRXn2, A11 SSRXp2, A12 GND, B1 GND, B2 SSTXp2, B3 SSTXn2, B4 VBUS, B5 CC2, B6 Dp2, B7 Dn2, B8 SBU2, B9 VBUS, B10 SSRXn1, B11 SSRXp1, B12 GND, Shield

## RASM722X
designator CON?
Connector Power PL 2 POS Solder RA SMD 3 Terminal 1 Port Bulk; Manufacturer: Switchcraft; Contact Metarial: Copper Alloy,Brass; Gender: Male; Current Rating: 5A; Number of Contacts: 2; Purpose Of Usage: BASIC; Supplier 1: Digi-Key; Manufacturer Part Number: RASM722X; RoHS: Yes; Category: CONNECTORS; Mount: SMD; Contact Plating: Tin,Nickel; Color: Black; Sub-Category: JACK; Orientation: Right Angle; Length: 15.2mm; Supplier Part Number 1: RASM722X-ND; Stock ID: ??
footprint SWIT-RASM722X_V (SMD, 3-Leads, Body 14.5x9mm)
pins: 1 SLEEVE, 2 TIP, 3 SHUNT

## S70-125161545R
designator CON?
Conn Accessories Pogo Pin Contact Pad Rectangular Shape SMD Beryllium Copper Gold Over Nickel T/R; Manufacturer: Harwin; Number of Contacts: 1; Purpose Of Usage: BASIC; Supplier 1: Digi-Key; Manufacturer Part Number: S70-125161545R; RoHS: Yes; Contact Plating: Gold; Min Operating Temperature: -40°C; Max Operating Temperature: 180°C; Supplier Part Number 1: 952-3138-1-ND; Category: CONNECTORS; Local Supplier: FUTURE; Mount: SMD; Stock ID: ??; Sub-Category: PAD
footprint S70-125161545R (Pin Header, pitch 2.54 mm, THT, Vertical, single row, 4p)
pins: 1

## SIM5051-6-0-18-00-A
designator CON?
Mini Sim Hinged, 6P, SMT, 1.8MM; Manufacturer: Global Connector Technology; Number of Contacts: 6; Purpose Of Usage: BASIC; Supplier 1: Farnell; Manufacturer Part Number: SIM5051-6-0-18-00-A; RoHS: Yes; Category: CONNECTORS; Contact Plating: Gold; Supplier Part Number 1: 2443096; Mount: SMD; Sub-Category: SIM CARD; Local Supplier: FUTURE; Price 10K: 0.308; Stock ID: ??
footprint SIM5051-6-0-18-00-X_revF (SIM Card Connector, Hinged Type, 6 Pin, SMT, 1.85mm Profile)
pins: C1 VCC, C2 RST, C3 CLK, C5 GND, C6 VPP, C7 I/O

## SIM8060-6-0-14-00-A
designator CON?
Nano SIM Hinged, 6P, 1.43mmH, 1µ", No Peg, No Switch, T&R; Manufacturer: Global Connector Technology; Purpose Of Usage: BASIC; Supplier 1: Farnell; Manufacturer Part Number: SIM8060-6-0-14-00-A; RoHS: Yes; Category: CONNECTORS; Supplier Part Number 1: 3873306; Mount: SMD; Sub-Category: SIM CARD; Stock ID: ??
footprint SIM8060-6-0-14-00-A
pins: C1 VCC, C2 RST, C3 CLK, C5 GND, C6 VPP, C7 IO, S1 SHIELD, S2 SHIELD, S3 SHIELD, S4 SHIELD

## SIM8060-6-1-14-00-A
designator CON?
6 Position Right Angle Surface Mount NANO SIM Card Connector; Manufacturer: Global Connector Technology; Purpose Of Usage: BASIC; Supplier 1: Future Electronics; Manufacturer Part Number: SIM8060-6-1-14-00-A; RoHS: No; Category: CONNECTORS; Supplier Part Number 1: 6127031; Mount: SMD; Sub-Category: SIM CARD; Local Supplier: FUTURE; Price 10K: 0.49; Stock ID: ??
footprint SIM8060-6-1-14-00-A
pins: C1 VCC, C2 RST, C3 CLK, C5 GND, C6 VPP, C7 IO, S1 SHIELD, S2 SHIELD, S3 SHIELD, SW SWITCH

## SJ2-3544A-SMT-TR
designator CON?
Manufacturer: CUI Devices; Current Rating: 1A; Gender: Female; Purpose Of Usage: BASIC; Supplier 1: Digi-Key; Manufacturer Part Number: SJ2-3544A-SMT-TR; RoHS: Yes; Category: CONNECTORS; Supplier Part Number 1: CP-SJ2-3544A-SMT-CT-ND; Color: Black; Contact Plating: Silver; Lead Free: Lead Free; Mount: SMD; Orientation: Horizontal; Stock ID: ??; Sub-Category: AUDIO JACK
footprint SJ2-3544A-SMT-TR
pins: 1 MIC, 2 LEFT1, 3 GND, 4 RIGHT, 5 LEFT2
text: SLV; RNG1; RNG2; TIP